# EAGLE library part IC_MCP4725 (library untitled)
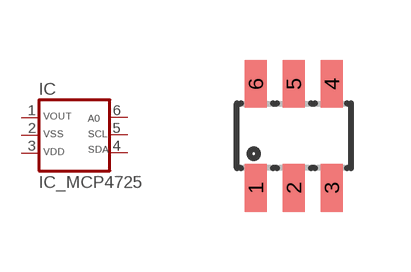
[diagram p15: symbol with the pads of SOT-23-6; footprint SOT-23-6]

Designator prefix IC

## IC_MCP4725  [SOT-23-6]
1  1  pas
2  2  pas
3  3  pas
4  4  pas
5  5  pas
6  6  pas

## Footprint SOT-23-6 (pad centres in mm)
smd 0.55 x 1.2: 1 -0.95,-1.3; 2 0,-1.3; 3 0.95,-1.3; 4 0.95,1.3; 5 0,1.3; 6 -0.95,1.3